# EAGLE library part LMZ14203HTZ/NOPB (library LMZ14203HTZ_NOPB)
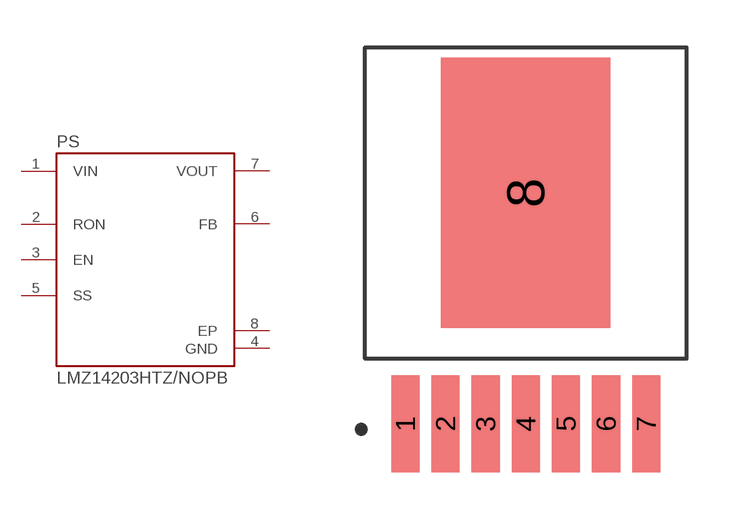
[diagram p0: symbol with the pads of CONV_LMZ14203HTZ/NOPB; footprint CONV_LMZ14203HTZ/NOPB]

Designator prefix PS

## LMZ14203HTZ/NOPB (Description: Non-Isolated PoL Module DC DC Converter 1 Output 5 ~ 30V 3A 6V - 42V Input; Digi-Key_Part_Number: 296-43602-1-ND; MF: Texas Instruments; MP: LMZ14203HTZ; Package: TO-PMOD-7-7 Texas Instruments)  [CONV_LMZ14203HTZ/NOPB]
1  VIN  in
2  RON  in
3  EN  in
4  GND  pwr
5  SS  pas
6  FB  out
7  VOUT  out
8  EP  pwr

## Footprint CONV_LMZ14203HTZ/NOPB (pad centres in mm)
smd 0.89 x 3.06: 1 -3.81,-5.022; 2 -2.54,-5.022; 3 -1.27,-5.022; 4 0,-5.022; 5 1.27,-5.022; 6 2.54,-5.022; 7 3.81,-5.022
smd 5.35 x 8.54: 8 0,2.283